# Altium schematic symbol library Passive Components.SchLib: 23 symbols
Pins are listed as number, name and electrical type; pins without a type are passive.

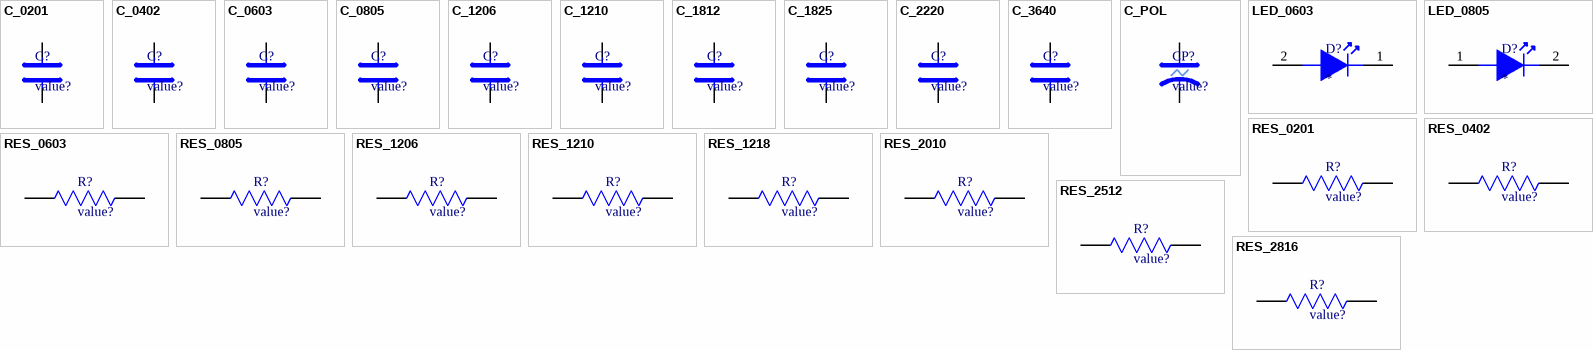
[diagram p0: symbols C_0201 to RES_2816]

## C_0201
designator C?, comment value?
Capacitor SMD 0201 Non-Polarized; ComponentLink1Description: Datasheet; ComponentLink1URL: *; Manufacturer Part Number: *; Manufacturer: *; Dielectric: *; Tolerance: *
footprint C_0201_0603 METRIC_L (Capacitor_0201_Low Density)
pins: 1, 2

## C_0402
designator C?, comment value?
Capacitor SMD 0402 Non-Polarized; ComponentLink1Description: Datasheet; ComponentLink1URL: *; Manufacturer Part Number: *; Manufacturer: *; Dielectric: *; Tolerance: *
footprint C_0402_1005 Metric_L (Chip Capacitor, 2-Leads, Body 1.00x0.50mm, IPC Low Density)
pins: 1, 2

## C_0603
designator C?, comment value?
Capacitor SMD 0603 Non-Polarized; ComponentLink1Description: Datasheet; ComponentLink1URL: *; Manufacturer Part Number: *; Manufacturer: *; Dielectric: *; Tolerance: *
footprint C_0603_1608 Metric_H (Chip Capacitor, 2-Leads, Body 1.60x0.80mm, IPC High Density)
footprint C_0603_1608 Metric_L (Chip Capacitor, 2-Leads, Body 1.60x0.80mm, IPC Low Density)
footprint C_0603_1608 Metric_M (Chip Capacitor, 2-Leads, Body 1.60x0.80mm, IPC Medium Density)
pins: 1, 2

## C_0805
designator C?, comment value?
Capacitor SMD 0805 Non-Polarized; ComponentLink1Description: Datasheet; ComponentLink1URL: *; Manufacturer Part Number: *; Manufacturer: *; Dielectric: *; Tolerance: *
footprint C_0805_2012 Metric_H (Chip Capacitor, 2-Leads, Body 2.00x1.25mm, IPC High Density)
footprint C_0805_2012 Metric_M (Chip Capacitor, 2-Leads, Body 2.00x1.25mm, IPC Medium Density)
footprint C_0805_2012 Metric_L (Chip Capacitor, 2-Leads, Body 2.00x1.25mm, IPC Low Density)
pins: 1, 2

## C_1206
designator C?, comment value?
Capacitor SMD 1206 Non-Polarized; ComponentLink1Description: Datasheet; ComponentLink1URL: *; Manufacturer Part Number: *; Manufacturer: *; Dielectric: *; Tolerance: *
footprint C_1206_3216 Metric_L (Chip Capacitor, 2-Leads, Body 3.20x1.60mm, IPC Low Density)
footprint C_1206_3216 Metric_H (Chip Capacitor, 2-Leads, Body 3.20x1.60mm, IPC High Density)
footprint C_1206_3216 Metric_M (Chip Capacitor, 2-Leads, Body 3.20x1.60mm, IPC Medium Density)
pins: 1, 2

## C_1210
designator C?, comment value?
Capacitor SMD 1210 Non-Polarized; ComponentLink1Description: Datasheet; ComponentLink1URL: *; Manufacturer Part Number: *; Manufacturer: *; Dielectric: *; Tolerance: *
footprint C_1210_3225 Metric_L (Chip Capacitor, 2-Leads, Body 3.20x2.50mm, IPC Low Density)
footprint C_1210_3225 Metric_M (Chip Capacitor, 2-Leads, Body 3.20x2.50mm, IPC Medium Density)
footprint C_1210_3225 Metric_H (Chip Capacitor, 2-Leads, Body 3.20x2.50mm, IPC High Density)
pins: 1, 2

## C_1812
designator C?, comment value?
Capacitor SMD 1812 Non-Polarized; ComponentLink1Description: Datasheet; ComponentLink1URL: *; Manufacturer Part Number: *; Manufacturer: *; Dielectric: *; Tolerance: *
pins: 1, 2

## C_1825
designator C?, comment value?
Capacitor SMD 1825 Non-Polarized; ComponentLink1Description: Datasheet; ComponentLink1URL: *; Manufacturer Part Number: *; Manufacturer: *; Dielectric: *; Tolerance: *
pins: 1, 2

## C_2220
designator C?, comment value?
Capacitor SMD 2220 Non-Polarized; ComponentLink1Description: Datasheet; ComponentLink1URL: *; Manufacturer Part Number: *; Manufacturer: *; Dielectric: *; Tolerance: *
pins: 1, 2

## C_3640
designator C?, comment value?
Capacitor SMD 3640 Non-Polarized; ComponentLink1Description: Datasheet; ComponentLink1URL: *; Manufacturer Part Number: *; Manufacturer: *; Dielectric: *; Tolerance: *
pins: 1, 2

## C_POL
designator CP?, comment value?
Polarized Capacitor; ComponentLink1Description: Datasheet; ComponentLink1URL: *
pins: 1, 2

## LED_0603
designator D?
LED SMD 0603 Generic; Forward Voltage: *; Power: *; Manufacturer Part Number: *; Manufacturer: *; ComponentLink1Description: Datasheeet; ComponentLink1URL: *; Color: *
pins: 1, 2

## LED_0805
designator D?
LED SMD 0805 Generic; Forward Voltage: *; Power: *; Manufacturer Part Number: *; Manufacturer: *; ComponentLink1Description: Datasheeet; ComponentLink1URL: *; Color: *
footprint LED_0805_M
pins: 1, 2

## RES_0201
designator R?, comment value?
Resistor SMD 0201 Generic; Manufacturer Part Number: *; Manufacturer: *; ComponentLink1Description: Datasheet; ComponentLink1URL: *; Tolerance: *; Power: *
pins: 1, 2

## RES_0402
designator R?, comment value?
Resistor SMD 0402 Generic; Manufacturing Part Number: *; Manufacturer: *; ComponentLink1Description: Datasheet; ComponentLink1URL: *; Tolerance: *; Power: *
footprint R_0402_1005 Metric_M (Chip Resistor, 2-Leads, Body 1.00x0.50mm, IPC Medium Density)
footprint R_0402_1005 Metric_H (Chip Resistor, 2-Leads, Body 1.00x0.50mm, IPC High Density)
footprint R_0402_1005 Metric_L (Chip Resistor, 2-Leads, Body 1.00x0.50mm, IPC Low Density)
pins: 1, 2

## RES_0603
designator R?, comment value?
Resistor SMD 0603 Generic; Manufacturer Part Number: *; Manufacturer: *; ComponentLink1Description: Datasheet; ComponentLink1URL: *; Tolerance: *; Power: *
footprint R_0603_1608 Metric_L (Chip Resistor, 2-Leads, Body 1.60x0.80mm, IPC Low Density)
footprint R_0603_1608 Metric_M (Chip Resistor, 2-Leads, Body 1.60x0.80mm, IPC Medium Density)
footprint R_0603_1608 Metric_H (Chip Resistor, 2-Leads, Body 1.60x0.80mm, IPC High Density)
pins: 1, 2

## RES_0805
designator R?, comment value?
Resistor SMD 0805 Generic; Manufacturer Part Number: *; Manufacturer: *; ComponentLink1Description: Datasheet; ComponentLink1URL: *; Tolerance: *; Power: *
footprint R_0805_2012 Metric_M (Chip Resistor, 2-Leads, Body 2.00x1.25mm, IPC Medium Density)
footprint R_0805_2012 Metric_L (Chip Resistor, 2-Leads, Body 2.00x1.25mm, IPC Low Density)
footprint R_0805_2012 Metric_H (Chip Resistor, 2-Leads, Body 2.00x1.25mm, IPC High Density)
pins: 1, 2

## RES_1206
designator R?, comment value?
Resistor SMD 1206 Generic; Manufacturer Part Number: *; Manufacturer: *; ComponentLink1Description: Datasheet; ComponentLink1URL: *; Tolerance: *; Power: *
footprint R1206_3216 Metric_L (Chip Resistor, 2-Leads, Body 3.10x1.60mm, IPC Low Density)
footprint R1206_3216 Metric_M (Chip Resistor, 2-Leads, Body 3.10x1.60mm, IPC Medium Density)
footprint R1206_3216 Metric_H (Chip Resistor, 2-Leads, Body 3.10x1.60mm, IPC High Density)
pins: 1, 2

## RES_1210
designator R?, comment value?
Resistor SMD 1210 Generic; Manufacturer Part Number: *; Manufacturer: *; ComponentLink1Description: Datasheet; ComponentLink1URL: *; Tolerance: *; Power: *
footprint R_1210_3225 Metric_H (Chip Resistor, 2-Leads, Body 3.10x2.60mm, IPC High Density)
footprint R_1210_3225 Metric_L (Chip Resistor, 2-Leads, Body 3.10x2.60mm, IPC Low Density)
footprint R_1210_3225 Metric_M (Chip Resistor, 2-Leads, Body 3.10x2.60mm, IPC Medium Density)
pins: 1, 2

## RES_1218
designator R?, comment value?
Resistor SMD 1218 Generic; Manufacturer Part Number: *; Manufacturer: *; ComponentLink1Description: Datasheet; ComponentLink1URL: *; Tolerance: *; Power: *
pins: 1, 2

## RES_2010
designator R?, comment value?
Resistor SMD 2010 Generic; Manufacturer Part Number: *; Manufacturer: *; ComponentLink1Description: Datasheet; ComponentLink1URL: *; Tolerance: *; Power: *
pins: 1, 2

## RES_2512
designator R?, comment value?
Resistor SMD 2512 Generic; Manufacturer Part Number: *; Manufacturer: *; ComponentLink1Description: Datasheet; ComponentLink1URL: *; Tolerance: *; Power: *
pins: 1, 2

## RES_2816
designator R?, comment value?
Resistor SMD 2816 Generic; Manufacturer Part Number: *; Manufacturer: *; ComponentLink1Description: Datasheet; ComponentLink1URL: *; Tolerance: *; Power: *
pins: 1, 2